# Altium footprint library mylib.PcbLib: 214 footprints (part 5 of 14)
Each footprint in its own frame and in the unit in brackets; x right, y up, seen from the top. Pads: shape width x height; smd on the part's side, far side on the other; paste and mask are expansions set on the pad; w line width, h text height; cw(c..) or ccw(c..) is an arc to the next point about the centre after c.
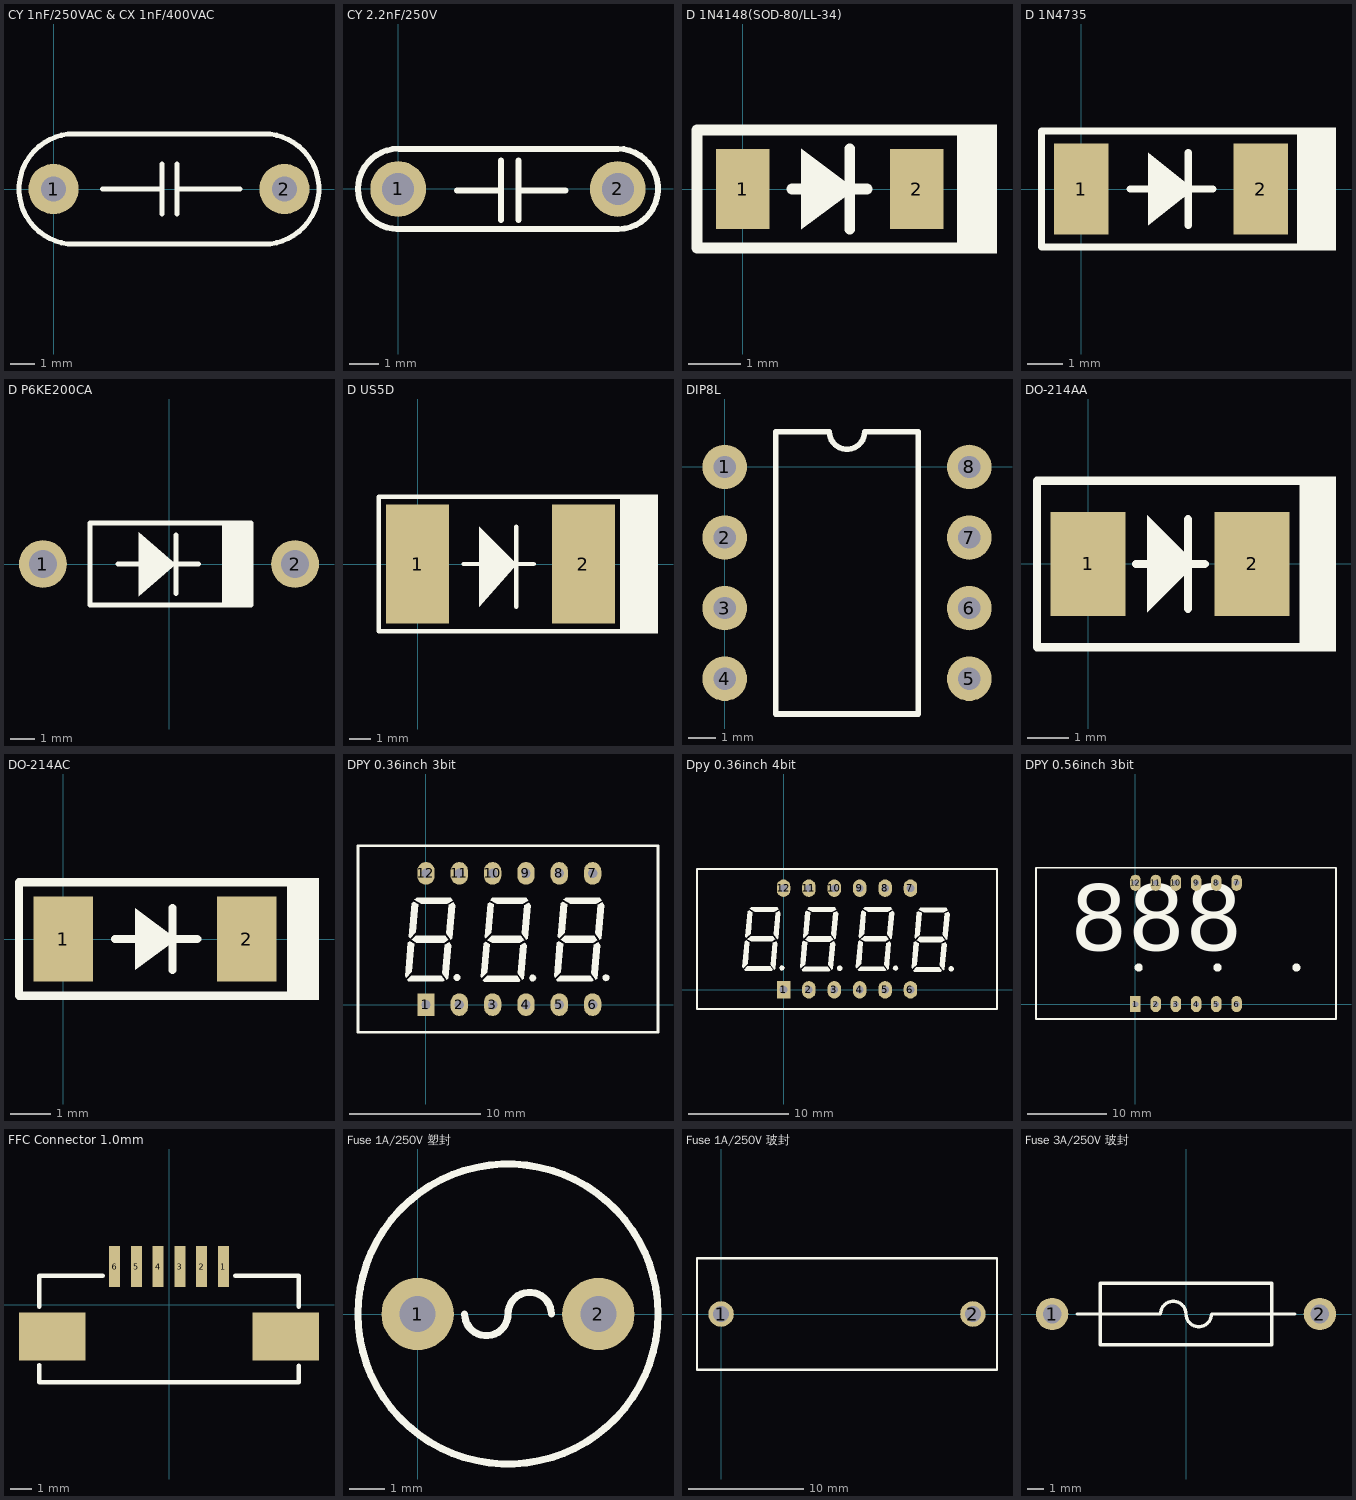
[diagram p4: the footprints below, top view; thin cyan lines are the x and y axes]

## CY 1nF/250VAC & CX 1nF/400VAC [mil]
pads (2):
  round 80 hole 40: 1(0,0) 2(368,0)
Top Overlay:
  lines w8: 78,0 173,0 ; 173,-40 173,40 ; 197,-40 197,40 ; 197,0 297,0 ; 33,-88 cw(c33,0) 33,88 335,88 cw(c335,0) 335,-88 33,-88

## CY 2.2nF/250V [mil]
pads (2):
  round 75 hole 43: 1(0,0) 2(295.28,0)
Top Overlay:
  lines w8: -2,-54 296.28,-54 ; 0,-54.01 cw(c0,0) 0,54.01 ; 1,54 295.28,54 cw(c295.28,-0.08) 296.28,-54.16 ; 79,-2 138,-2 ; 138,-42 138,38 ; 162,-42 162,38 ; 162,-2 225,-2

## D 1N4148(SOD-80/LL-34) [mil]
pads (2):
  rect 40x60 smd: 1(0,0) 2(130,0)
Top Overlay:
  rectangle: 160,-48 190,48
  region: 44,30 84,0 44,-30
  lines w8: 37,0 48,0 ; 80,-30 80,30 ; 80,0 93,0 ; -34,-44 -34,44 164,44 164,-44 -34,-44

## D 1N4735 [mil]
pads (2):
  rect 60x100 smd: 1(0,0) 2(198,0)
Top Overlay:
  rectangle: 242,-68 281,68
  region: 74,40 124,0 74,-40
  lines w8: 54,0 74,0 ; 118,-40 118,40 ; 121,0 145,0 ; -44,-64 242,-64 242,64 -44,64 -44,-64

## D P6KE200CA [mil]
pads (2):
  round 76 hole 44: 1(-200,0) 2(200,0)
Top Overlay:
  rectangle: 84,-64 130,65
  region: -48,50 -48,-51 11,0
  lines w8: -81,0 -42,0 ; 6,0 47,0 ; 11,-47 11,0 11,46 ; -125,-65 130,-65 130,65 -125,65 -125,-65

## D US5D [mil]
pads (2):
  rect 118x224 smd: 1(0,0) 2(311,0)
Top Overlay:
  rectangle: 383,-130 451,130
  region: 116,70 186,0 116,-80
  lines w8: 86,0 116,0 ; 185,-80 185,70 ; 185,0 218,0 ; -73,-126 -73,126 384,126 384,-126 -73,-126

## DIP8L [mm]
pads (8):
  round 1.6 hole 0.8: 1(0,0) 2(0,-2.54) 3(0,-5.08) 4(0,-7.62) 5(8.8,-7.62) 6(8.8,-5.08) 7(8.8,-2.54) 8(8.8,0)
Top Overlay:
  lines w0.2: 1.835,-8.89 6.965,-8.89 6.965,1.27 5.035,1.27 cw(c4.4,1.27) 3.765,1.27 1.835,1.27 1.835,-8.89

## DO-214AA [mil]
pads (2):
  rect 72x100 smd: 1(0,0) 2(157.48,0)
Top Overlay:
  rectangle: 203,-84 238,84
  region: 56.75,46.75 103.25,0.25 56.75,-46.25
  lines w8: 46,0 112,0 ; 96,-43 96,43 ; -49,-80 207,-80 207,80 -49,80 -49,-80

## DO-214AC [mil]
pads (2):
  rect 58x82 smd: 1(0,0) 2(178,0)
Top Overlay:
  rectangle: 220,-59.11 248,59.11
  region: 70,30 110,0 70,-30
  lines w8: 50,0 70,0 ; 106,-30 106,30 ; 106,0 130,0 ; -43,-55.12 -43,55.12 221,55.12 221,-55.12 -43,-55.12

## DPY 0.36inch 3bit [mil]
pads (12):
  rect 52x68 hole 28: 1(0,0)
  oval 52x68 hole 28: 2(100,0) 3(200,0) 4(300,0) 5(400,0) 6(500,0) 7(500,393.7) 8(400,393.7) 9(300,393.7) 10(200,393.7) 11(100,393.7) 12(0,393.7)
Top Overlay:
  drawing of 28 lines, arcs and shapes, not listed

## Dpy 0.36inch 4bit [mm]
pads (12):
  rect 1.35x1.75 hole 0.75: 1(0,0)
  oval 1.35x1.75 hole 0.75: 2(2.54,0) 3(5.08,0) 4(7.62,0) 5(10.16,0) 6(12.7,0) 7(12.7,10.16) 8(10.16,10.16) 9(7.62,10.16) 10(5.08,10.16) 11(2.54,10.16) 12(0,10.16)
Top Overlay:
  drawing of 36 lines, arcs and shapes, not listed

## DPY 0.56inch 3bit [mil]
pads (12):
  rect 52x80 hole 28: 1(0,0)
  oval 52x80 hole 28: 2(100,0) 3(200,0) 4(300,0) 5(400,0) 6(500,0) 7(500,600) 8(400,600) 9(300,600) 10(200,600) 11(100,600) 12(0,600)
Top Overlay:
  circle w20: c16,181 r10
  circle w20: c406,181 r10
  circle w20: c796,181 r10
  lines w8: -492,-74 992,-74 992,674 -492,674 -492,-74
  text "888" at -323,158 h560

## FFC Connector 1.0mm [mm]
pads (8):
  rect 0.5x1.9 smd: 1(2.5,1.75) 2(1.5,1.75) 3(0.5,1.75) 4(-0.5,1.75) 5(-1.5,1.75) 6(-2.5,1.75)
  rect 3.048x2.2 smd: ""(-5.358,-1.45) ""(5.358,-1.45)
Top Overlay:
  lines w0.203: -5.944,-2.769 -5.944,-3.556 5.944,-3.556 5.944,-2.794 ; -5.944,-0.102 -5.944,1.321 -3.048,1.321 ; 3.048,1.321 5.944,1.321 5.944,-0.102

## Fuse 1A/250V 塑封 [mil]
pads (2):
  round 80 hole 40: 1(0,0) 2(200,0)
Top Overlay:
  circle w8: c100,0 r166
  lines w8: 52,0 ccw(c76,0) 100,0 cw(c124,0) 148,0

## Fuse 1A/250V 玻封 [mil]
pads (2):
  round 87 hole 55: 1(0,0) 2(858,0)
Top Overlay:
  lines w8: -82,-190 -82,190 940,190 940,-190 -82,-190

## Fuse 3A/250V 玻封 [mil]
pads (2):
  round 76 hole 44: 1(-314.96,0) 2(314.96,0)
Top Overlay:
  lines w8: -255.91,0 -60,0 cw(c-30,0) 0,0 ccw(c30,0) 60,0 255.91,0 ; -202,-72 202,-72 202,72 -202,72 -202,-72